# Altium footprint library PcbLib2.PcbLib: 24 footprints (part 2 of 2)
Each footprint in its own frame and in the unit in brackets; x right, y up, seen from the top. Pads: shape width x height; smd on the part's side, far side on the other; paste and mask are expansions set on the pad; w line width, h text height; cw(c..) or ccw(c..) is an arc to the next point about the centre after c.
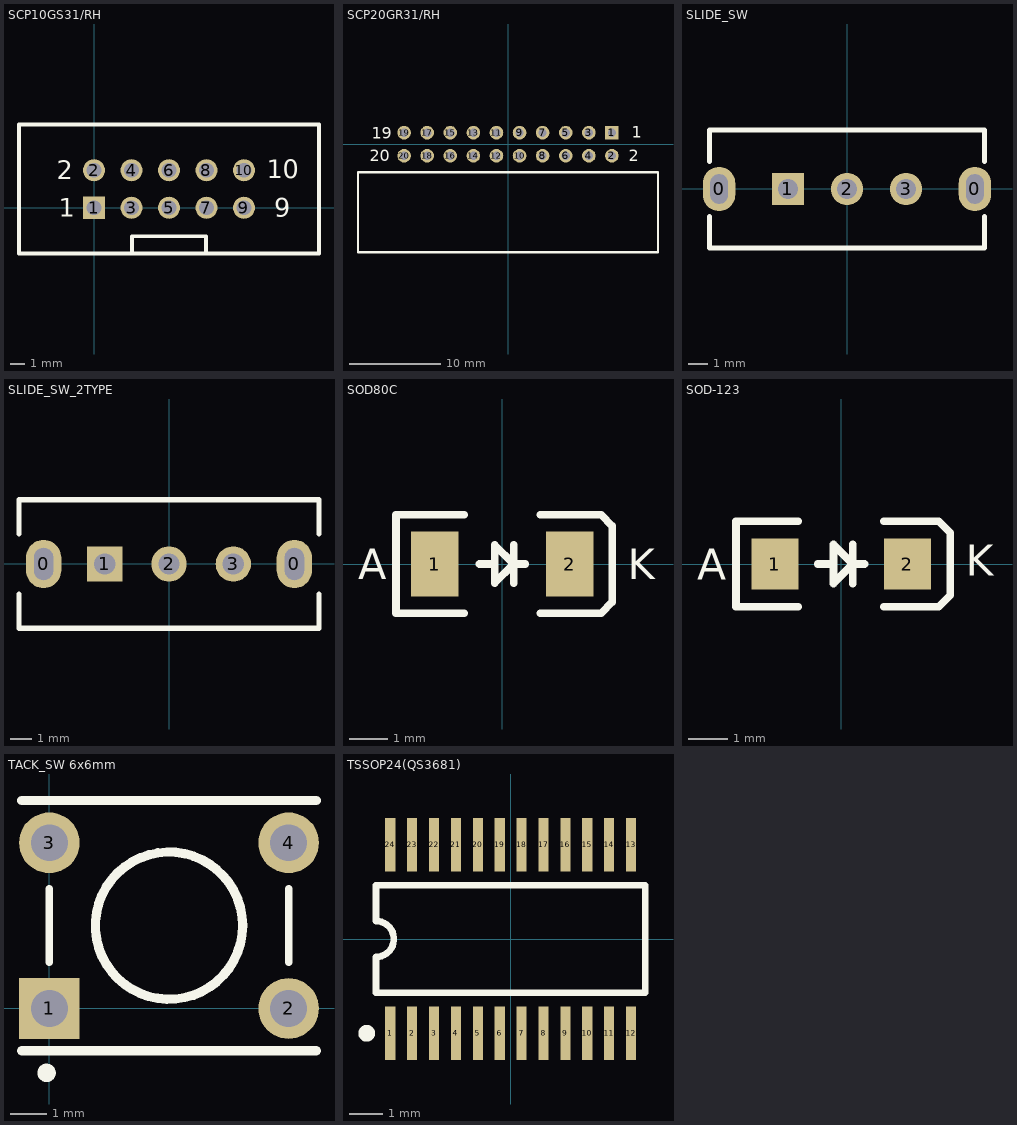
[diagram p1: the footprints below, top view; thin cyan lines are the x and y axes]

## SCP10GS31/RH [mm]
pads (10):
  rect 1.5x1.5 hole 1: 1(0,0)
  round 1.5 hole 1: 2(0,2.54) 3(2.54,0) 4(2.54,2.54) 5(5.08,0) 6(5.08,2.54) 7(7.62,0) 8(7.62,2.54) 9(10.16,0) 10(10.16,2.54)
Top Overlay:
  lines w0.254: 2.58,-3.105 2.58,-1.93 7.58,-1.93 7.58,-3.105 ; -5.08,-3.105 -5.08,5.645 15.24,5.645 15.24,-3.105 -5.08,-3.105
  text "2" at -2.532,1.932 h1.27
  text "1" at -2.4,-0.6 h1.27
  text "9" at 12.2,-0.6 h1.27
  text "10" at 11.7,2 h1.27

## SCP20GR31/RH [mm]
pads (20):
  rect 1.5x1.5 hole 0.9: 1(11.43,1.27)
  round 1.5 hole 0.9: 2(11.43,-1.27) 3(8.89,1.27) 4(8.89,-1.27) 5(6.35,1.27) 6(6.35,-1.27) 7(3.81,1.27) 8(3.81,-1.27) 9(1.27,1.27) 10(1.27,-1.27) 11(-1.27,1.27) 12(-1.27,-1.27) 13(-3.81,1.27) 14(-3.81,-1.27) 15(-6.35,1.27) 16(-6.35,-1.27) 17(-8.89,1.27) 18(-8.89,-1.27) 19(-11.43,1.27) 20(-11.43,-1.27)
Top Overlay:
  lines w0.254: 16.5,-11.87 -16.5,-11.87 -16.5,-3.07 16.5,-3.07 16.5,-11.84
  text "20" at -15.2,-1.9 h1.27
  text "19" at -15,0.6 h1.27
  text "2" at 13.3,-1.9 h1.27
  text "1" at 13.6,0.7 h1.27

## SLIDE_SW [mm]
pads (5):
  oval 1.65x2.25 hole 0.9 slot 1.5 at 90 deg: 0(-6.5,0) 0(6.5,0)
  rect 1.65x1.65 hole 1: 1(-3,0)
  round 1.65 hole 1: 2(0,0) 3(3,0)
Top Overlay:
  lines w0.254: -7,-1.4 -7,-3 7,-3 7,-1.4 ; -7,1.4 -7,3 7,3 7,1.4

## SLIDE_SW_2TYPE [mm]
pads (5):
  oval 1.65x2.25 hole 0.9 slot 1.5 at 90 deg: 0(-5.85,0) 0(5.85,0)
  rect 1.65x1.65 hole 1: 1(-3,0)
  round 1.65 hole 1: 2(0,0) 3(3,0)
Top Overlay:
  lines w0.254: -7,-1.4 -7,-3 7,-3 7,-1.4 ; -7,1.4 -7,3 7,3 7,1.4

## SOD80C [mm] "Metal Electrode Face (MELF) Diode; Body 3.5 x 1.6 mm (LxDia)"
height 1.6
pads (2):
  rect 1.25x1.7 smd: 1(-1.775,0) 2(1.775,0)
Top Overlay:
  lines w0.2: -1,-1.3 -2.8,-1.3 -2.8,1.3 -1,1.3 ; -0.6,0 -0.2,0 ; 0.3,-0.5 0.3,0.5 ; 0.6,0 0.3,0 ; 1,-1.3 2.6,-1.3 2.9,-1 2.9,1 2.6,1.3 1,1.3 ; 0.3,0 -0.2,-0.5 -0.2,0.5 0.3,0
  text "K" at 3.3,-0.4 h0.8
  text "A" at -3.8,-0.4 h0.8

## SOD-123 [mm] "SOD-123; 2 Leads; Body 2.7 x 1.6 mm, (LxW)"
height 1.35
pads (2):
  rect 1.2x1.3 smd: 1(-1.7,0) 2(1.7,0)
Top Overlay:
  lines w0.2: -1.102,-1.098 -2.7,-1.098 -2.7,1.098 -1.1,1.098 ; -0.6,0 -0.2,0 ; 0.3,-0.5 0.3,0.5 ; 0.6,0 0.3,0 ; 1.1,1.098 2.502,1.098 2.8,0.8 2.8,-0.8 2.502,-1.098 1.102,-1.098 ; 0.3,0 -0.2,-0.5 -0.2,0.5 0.3,0
  text "K" at 3.2,-0.3 h0.8
  text "A" at -3.7,-0.4 h0.8

## TACK_SW 6x6mm [mm]
pads (4):
  rect 1.65x1.65 hole 1: 1(0,0)
  round 1.65 hole 1: 2(6.5,0) 3(0,4.5) 4(6.5,4.5)
Top Overlay:
  circle w0.254: c3.25,2.25 r2
  circle w0.25: c-0.075,-1.75 r0.125
  lines w0.2: 0,1.25 0,3.25 ; 6.5,1.25 6.5,3.25
  lines w0.254: -0.75,-1.15 7.25,-1.15 ; -0.75,5.65 7.25,5.65

## TSSOP24(QS3681) [mm] "Shrink Small Outline; 24 Leads; Body Width 4.4 mm; Pitch 0.65 mm"
height 1.1
pads (24):
  rect 0.3x1.6 smd: 1(-3.575,-2.8) 2(-2.925,-2.8) 3(-2.275,-2.8) 4(-1.625,-2.8) 5(-0.975,-2.8) 6(-0.325,-2.8) 7(0.325,-2.8) 8(0.975,-2.8) 9(1.625,-2.8) 10(2.275,-2.8) 11(2.925,-2.8) 12(3.575,-2.8) 13(3.575,2.8) 14(2.925,2.8) 15(2.275,2.8) 16(1.625,2.8) 17(0.975,2.8) 18(0.325,2.8) 19(-0.325,2.8) 20(-0.975,2.8) 21(-1.625,2.8) 22(-2.275,2.8) 23(-2.925,2.8) 24(-3.575,2.8)
Top Overlay:
  circle w0.25: c-4.275,-2.8 r0.125
  lines w0.2: -4,-1.6 -4,-0.533 ccw(c-4,0) -4,0.533 -4,1.6 4,1.6 4,-1.6 -4,-1.6